# EAGLE library part LT6230 (library Linear Technology)
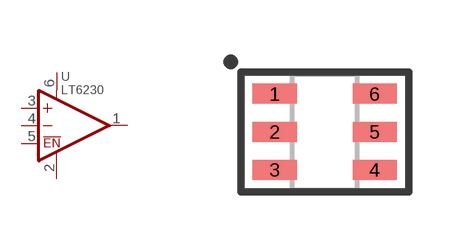
[diagram p2: symbol with the pads of TSOT-23-6; footprint TSOT-23-6]

Designator prefix U

## LT6230CS6#TRMPBF  [TSOT-23-6]
1  OUT  out
2  V-  pwr
3  +IN  in
4  -IN  in
5  !EN  in
6  V+  pwr

## Footprint TSOT-23-6 (pad centres in mm)
smd 1.1 x 0.5: 1 -1.25,0.95; 2 -1.25,0; 3 -1.25,-0.95; 4 1.25,-0.95; 5 1.25,0; 6 1.25,0.95